# EAGLE library part MATCHPORTB/G (library Modules)
Lantronix MatchPort® b/g Serial to WIFI Embedded Wireless Device Server
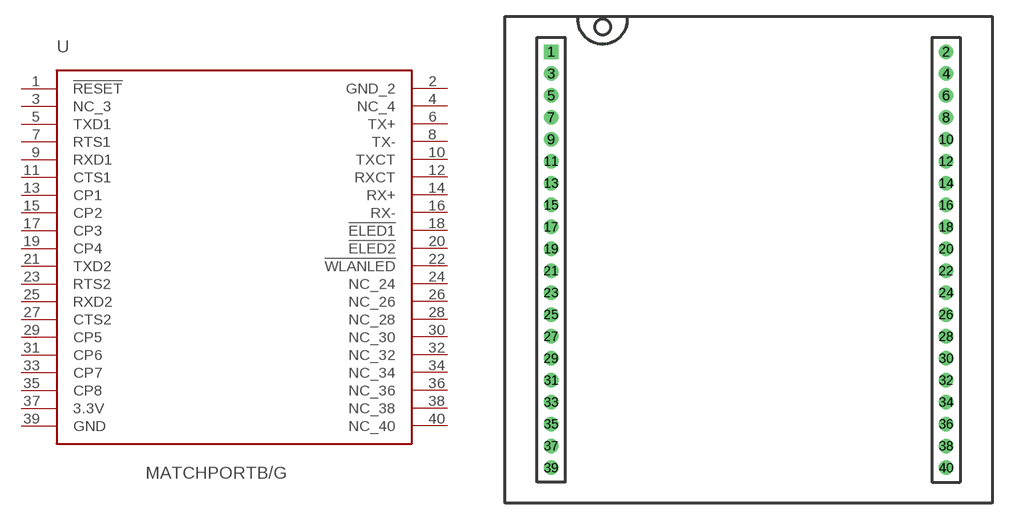
[diagram p0: symbol with the pads of MATCHPORT; footprint MATCHPORT]

Designator prefix -

## MATCHPORTB/G  [MATCHPORT]
1  !RESET  in
2  GND_2  pwr
3  NC_3  nc
4  NC_4  nc
5  TXD1  out
6  TX+  out
7  RTS1  out
8  TX-  out
9  RXD1  in
10  TXCT  out
11  CTS1  in
12  RXCT  in
13  CP1
14  RX+  in
15  CP2
16  RX-  in
17  CP3
18  !ELED1  out
19  CP4
20  !ELED2  out
21  TXD2  out
22  !WLANLED  out
23  RTS2  out
24  NC_24  nc
25  RXD2  in
26  NC_26  nc
27  CTS2  in
28  NC_28  nc
29  CP5
30  NC_30  nc
31  CP6
32  NC_32  nc
33  CP7
34  NC_34  nc
35  CP8
36  NC_36  nc
37  3.3V  pwr
38  NC_38  nc
39  GND  pwr
40  NC_40  nc

## Footprint MATCHPORT (pad centres in mm)
Lantronix MatchPort
drill 0.711 pad 1.321 square: 1 -18.034,19
drill 0.711 pad 1.321: 2 18.034,19; 3 -18.034,17; 4 18.034,17; 5 -18.034,15; 6 18.034,15; 7 -18.034,13; 8 18.034,13; 9 -18.034,11; 10 18.034,11; 11 -18.034,9; 12 18.034,9; 13 -18.034,7; 14 18.034,7; 15 -18.034,5; 16 18.034,5; 17 -18.034,3; 18 18.034,3; 19 -18.034,1; 20 18.034,1; 21 -18.034,-1; 22 18.034,-1; 23 -18.034,-3; 24 18.034,-3; 25 -18.034,-5; 26 18.034,-5; 27 -18.034,-7; 28 18.034,-7; 29 -18.034,-9; 30 18.034,-9; 31 -18.034,-11; 32 18.034,-11; 33 -18.034,-13; 34 18.034,-13; 35 -18.034,-15; 36 18.034,-15; 37 -18.034,-17; 38 18.034,-17; 39 -18.034,-19; 40 18.034,-19